# Altium footprint library IC_Freescale_Semiconductor_MP3V5004DP_eec_MFG.PcbLib: 1 footprints
Each footprint in its own frame and in the unit in brackets; x right, y up, seen from the top. Pads: shape width x height; smd on the part's side, far side on the other; paste and mask are expansions set on the pad; w line width, h text height; cw(c..) or ccw(c..) is an arc to the next point about the centre after c.
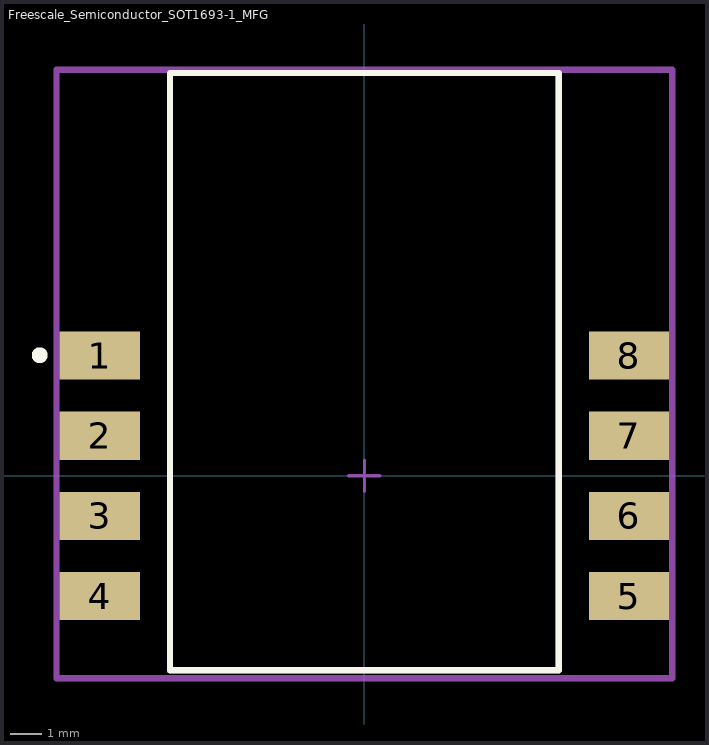
[diagram p0: the footprint, top view; thin cyan lines are the x and y axes]

## Freescale_Semiconductor_SOT1693-1_MFG [mil]
pads (8):
  rect 100x60 smd paste+0 mask+0: 1(-330,150) 2(-330,50) 3(-330,-50) 4(-330,-150) 5(330,-150) 6(330,-50) 7(330,50) 8(330,150)
Top Overlay:
  circle w9.84: c-404.9,150.47 r4.92
  lines w7.87: -242.5,-242.5 242.5,-242.5 242.5,502.5 -242.5,502.5 -242.5,-242.5
Mechanical 10:
  lines w7.87: -383.94,-252.44 383.94,-252.44 383.94,506.44 -383.94,506.44 -383.94,-252.44
  text ".Designator" at 0,134.41 h39.37
Mechanical 12:
  lines w7.87: -242.5,-242.5 242.5,-242.5 242.5,502.5 -242.5,502.5 -242.5,-242.5
Mechanical 15:
  lines w3.94: -19.68,0 19.68,0 ; 0,-19.68 0,19.68
  lines w7.87: -383.94,-252.44 383.94,-252.44 383.94,506.44 -383.94,506.44 -383.94,-252.44
3D body "IC_Freescale_Semiconductor_MP3V5004DP_eec.STEP": height 10, standoff 0, extent -383.94,-252.44 383.94,506.44